# EAGLE library part SN75HVD08DR (library FSAE Eletric)
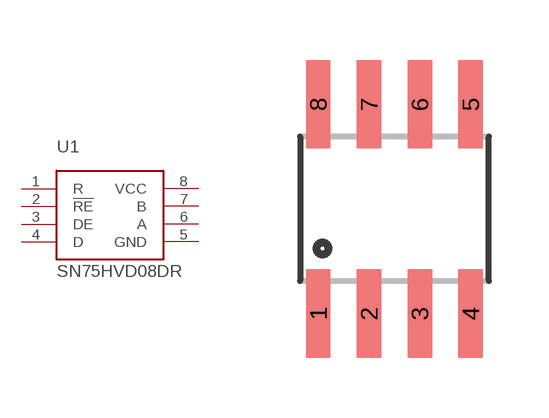
[diagram p40: symbol with the pads of SO-8; footprint SO-8]

Designator prefix U1

## SN75HVD08DR  [SO-8]
1  R
2  !RE
3  DE
4  D
5  GND
6  A
7  B
8  VCC

## Footprint SO-8 (pad centres in mm)
smd 0.61 x 2.21: 1 -1.905,-2.616; 2 -0.635,-2.616; 3 0.635,-2.616; 4 1.905,-2.616; 5 1.905,2.616; 6 0.635,2.616; 7 -0.635,2.616; 8 -1.905,2.616